# Altium integrated library TEPT5700.IntLib: 1 symbol
Pins are listed as number, name and electrical type; pins without a type are passive.

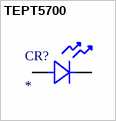
[diagram p0: symbol TEPT5700]

## TEPT5700
designator CR?
Phototransistors 570nm Top View Radial; MP: TEPT5700; MF: Vishay Semiconductor; SnapEDA_Link: https://www.snapeda.com/parts/TEPT5700/Vishay+Semiconductor+Opto+Division/view-part/?ref=snap; Package: Radial Vishay Semiconductor; Availability: In Stock; Price: None; Purchase-URL: https://pricing.snapeda.com/search/part/TEPT5700/?ref=eda; Check_prices: https://www.snapeda.com/parts/TEPT5700/Vishay+Semiconductor+Opto+Division/view-part/?ref=eda; Value: *
footprint LED_TEPT5700
pins: 1 11, 2 22